# Altium schematic symbol library k7sch5.SchLib: 7 symbols
Pins are listed as number, name and electrical type; pins without a type are passive.

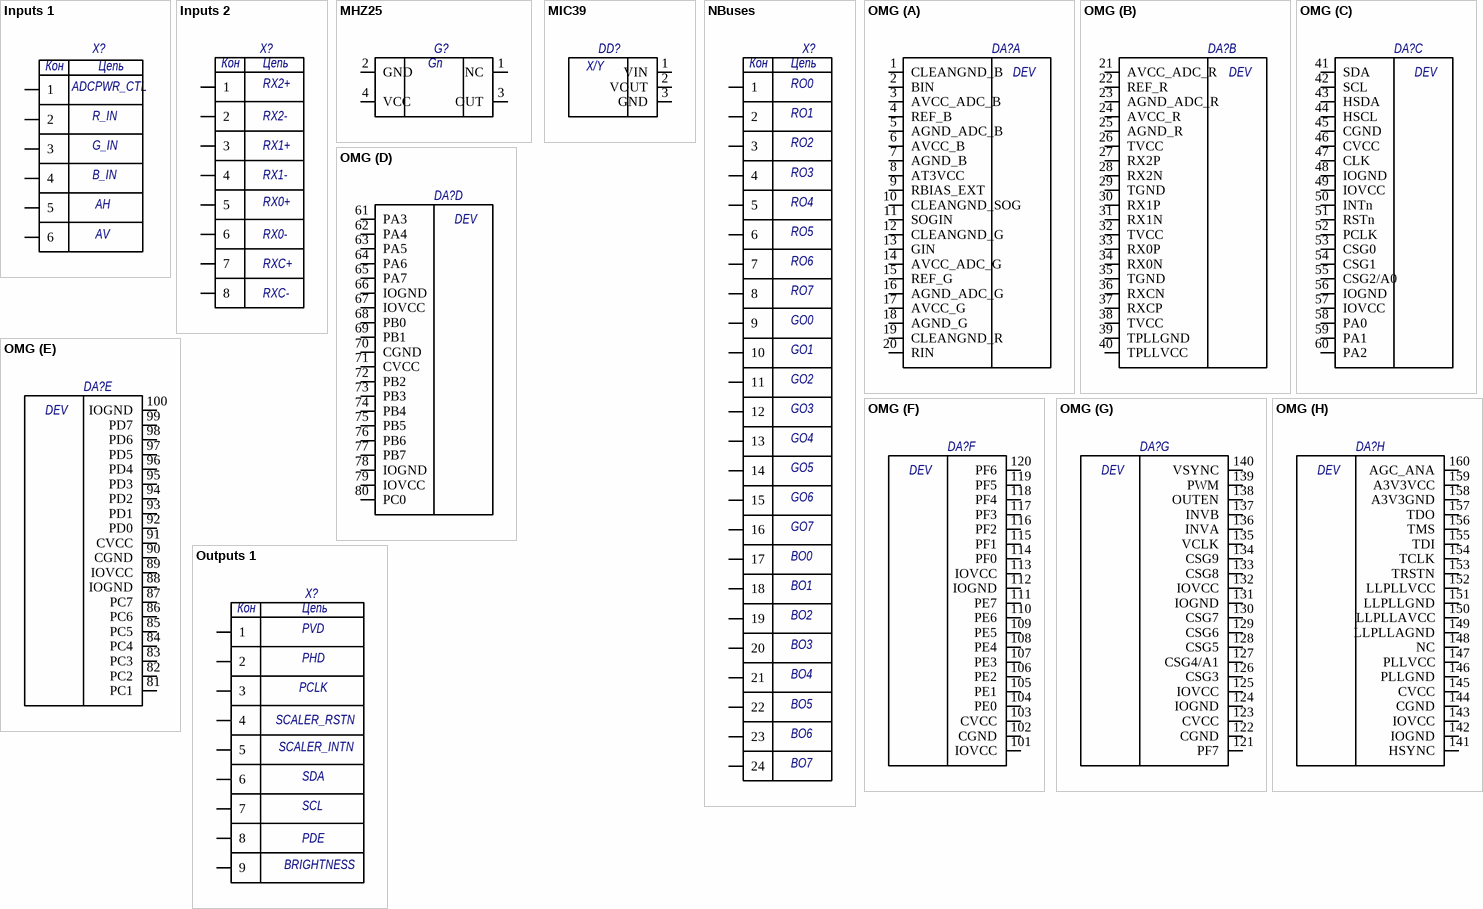
[diagram p0: symbols Inputs 1 to Outputs 1]

## Inputs 1
designator X?  (value not drawn)
footprint Inputs 1
pins: 1, 2, 3, 4, 5, 6
text: Кон; Цепь; ADCPWR_CTL; R_IN; G_IN; B_IN; AH; AV

## Inputs 2
designator X?  (value not drawn)
footprint Inputs 2
pins: 1, 2, 3, 4, 5, 6, 7, 8
text: Кон; Цепь; RX2+; RX2-; RX1+; RX1-; RX0+; RX0-; RXC+; RXC-

## MHZ25
designator G?  (value not drawn)
footprint GENERATOR-25MHZ
pins: 1 NC, 2 GND, 3 OUT, 4 VCC
text: Gn

## MIC39
designator DD?  (value not drawn)
footprint MIC39
pins: 1 VIN, 2 VOUT, 3 GND
text: X/Y

## NBuses
designator X?  (value not drawn)
footprint NBuses
pins: 1, 2, 3, 4, 5, 6, 7, 8, 9, 10, 11, 12, 13, 14, 15, 16, 17, 18, 19, 20, 21, 22, 23, 24
text: Кон; Цепь; RO0; RO1; RO2; RO3; RO4; RO5; RO6; RO7; GO0; GO1; GO2; GO3; GO4; GO5; GO6; GO7; BO0; BO1; BO2; BO3; BO4; BO5; BO6; BO7

## OMG
designator DA?  (value not drawn)
footprint QFP95P4500X4500X245-160N (QFP, 160-Leads, Body 40,00x40,00mm, Pitch 0,95mm, IPC Medium Density)
footprint OMG_1 (QFP, 160-Leads, Body 45,00x45,00mm, Pitch 1,20mm, IPC Medium Density)
part A pins: 1 CLEANGND_B, 2 BIN, 3 AVCC_ADC_B, 4 REF_B, 5 AGND_ADC_B, 6 AVCC_B, 7 AGND_B, 8 AT3VCC, 9 RBIAS_EXT, 10 CLEANGND_SOG, 11 SOGIN, 12 CLEANGND_G, 13 GIN, 14 AVCC_ADC_G, 15 REF_G, 16 AGND_ADC_G, 17 AVCC_G, 18 AGND_G, 19 CLEANGND_R, 20 RIN
part B pins: 21 AVCC_ADC_R, 22 REF_R, 23 AGND_ADC_R, 24 AVCC_R, 25 AGND_R, 26 TVCC, 27 RX2P, 28 RX2N, 29 TGND, 30 RX1P, 31 RX1N, 32 TVCC, 33 RX0P, 34 RX0N, 35 TGND, 36 RXCN, 37 RXCP, 38 TVCC, 39 TPLLGND, 40 TPLLVCC
part C pins: 41 SDA, 42 SCL, 43 HSDA, 44 HSCL, 45 CGND, 46 CVCC, 47 CLK, 48 IOGND, 49 IOVCC, 50 INTn, 51 RSTn, 52 PCLK, 53 CSG0, 54 CSG1, 55 CSG2/A0, 56 IOGND, 57 IOVCC, 58 PA0, 59 PA1, 60 PA2
part D pins: 61 PA3, 62 PA4, 63 PA5, 64 PA6, 65 PA7, 66 IOGND, 67 IOVCC, 68 PB0, 69 PB1, 70 CGND, 71 CVCC, 72 PB2, 73 PB3, 74 PB4, 75 PB5, 76 PB6, 77 PB7, 78 IOGND, 79 IOVCC, 80 PC0
part E pins: 81 PC1, 82 PC2, 83 PC3, 84 PC4, 85 PC5, 86 PC6, 87 PC7, 88 IOGND, 89 IOVCC, 90 CGND, 91 CVCC, 92 PD0, 93 PD1, 94 PD2, 95 PD3, 96 PD4, 97 PD5, 98 PD6, 99 PD7, 100 IOGND
part F pins: 101 IOVCC, 102 CGND, 103 CVCC, 104 PE0, 105 PE1, 106 PE2, 107 PE3, 108 PE4, 109 PE5, 110 PE6, 111 PE7, 112 IOGND, 113 IOVCC, 114 PF0, 115 PF1, 116 PF2, 117 PF3, 118 PF4, 119 PF5, 120 PF6
part G pins: 121 PF7, 122 CGND, 123 CVCC, 124 IOGND, 125 IOVCC, 126 CSG3, 127 CSG4/A1, 128 CSG5, 129 CSG6, 130 CSG7, 131 IOGND, 132 IOVCC, 133 CSG8, 134 CSG9, 135 VCLK, 136 INVA, 137 INVB, 138 OUTEN, 139 PWM, 140 VSYNC
part H pins: 141 HSYNC, 142 IOGND, 143 IOVCC, 144 CGND, 145 CVCC, 146 PLLGND, 147 PLLVCC, 148 NC, 149 LLPLLAGND, 150 LLPLLAVCC, 151 LLPLLGND, 152 LLPLLVCC, 153 TRSTN, 154 TCLK, 155 TDI, 156 TMS, 157 TDO, 158 A3V3GND, 159 A3V3VCC, 160 AGC_ANA
part A text: DEV
part B text: DEV
part C text: DEV
part D text: DEV
part E text: DEV
part F text: DEV
part G text: DEV
part H text: DEV

## Outputs 1
designator X?  (value not drawn)
footprint Outputs 1
pins: 1, 2, 3, 4, 5, 6, 7, 8, 9
text: Кон; Цепь; PVD; PHD; PCLK; SCALER_RSTN; SCALER_INTN; SDA; SCL; PDE; BRIGHTNESS